# EAGLE library part 74LVC161284 (library digital)
74LVC161284: 19 bit bus interface (Texas Instruments)
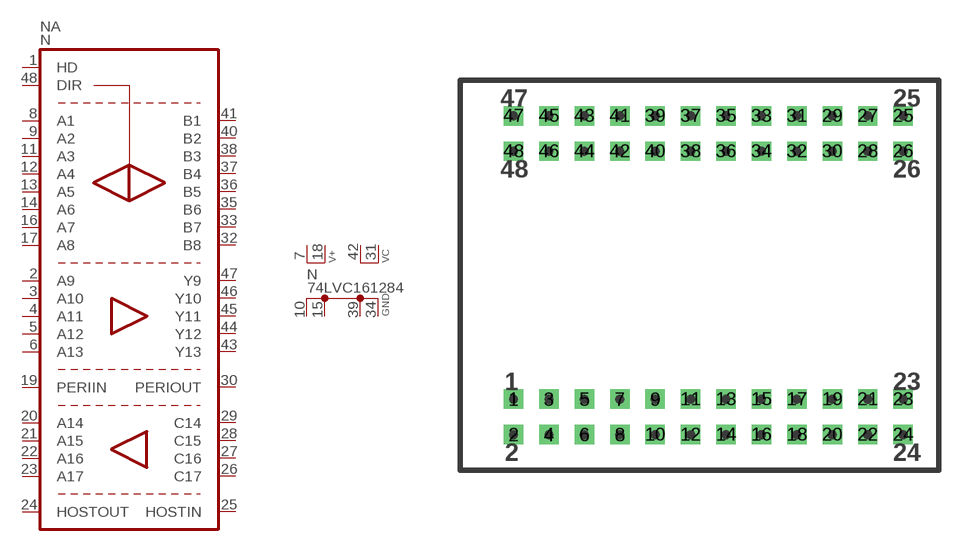
[diagram p62: symbol with the pads of TSSOP48ADAPTER; footprint TSSOP48ADAPTER]

Designator prefix N; gates A=74LVC161284 P=V4+4GND

## 74LVC161284  [TSSOP48ADAPTER]
1  A:HD  in
2  A:A9  in
3  A:A10  in
4  A:A11  in
5  A:A12  in
6  A:A13  in
7  P:V+  pwr
8  A:A1
9  A:A2
10  P:GND  pwr
11  A:A3
12  A:A4
13  A:A5
14  A:A6
15  P:GND  pwr
16  A:A7
17  A:A8
18  P:V+  pwr
19  A:PERIIN  in
20  A:A14  out
21  A:A15  out
22  A:A16  out
23  A:A17  out
24  A:HOSTOUT  out
25  A:HOSTIN  in
26  A:C17  in
27  A:C16  in
28  A:C15  in
29  A:C14  in
30  A:PERIOUT  out
31  P:VC+  pwr
32  A:B8
33  A:B7
34  P:GND  pwr
35  A:B6
36  A:B5
37  A:B4
38  A:B3
39  P:GND  pwr
40  A:B2
41  A:B1
42  P:VC+  pwr
43  A:Y13  out
44  A:Y12  out
45  A:Y11  out
46  A:Y10  out
47  A:Y9  out
48  A:DIR  in

## Footprint TSSOP48ADAPTER (pad centres in mm)
TSSOP48 adapter Roth Elektronik RE933-09
drill 0.813 pad 1.397 square: 1 0,0; 2 0,-2.54; 3 2.54,0; 4 2.54,-2.54; 5 5.08,0; 6 5.08,-2.54; 7 7.62,0; 8 7.62,-2.54; 9 10.16,0; 10 10.16,-2.54; 11 12.7,0; 12 12.7,-2.54; 13 15.24,0; 14 15.24,-2.54; 15 17.78,0; 16 17.78,-2.54; 17 20.32,0; 18 20.32,-2.54; 19 22.86,0; 20 22.86,-2.54; 21 25.4,0; 22 25.4,-2.54; 23 27.94,0; 24 27.94,-2.54; 25 27.94,20.32; 26 27.94,17.78; 27 25.4,20.32; 28 25.4,17.78; 29 22.86,20.32; 30 22.86,17.78; 31 20.32,20.32; 32 20.32,17.78; 33 17.78,20.32; 34 17.78,17.78; 35 15.24,20.32; 36 15.24,17.78; 37 12.7,20.32; 38 12.7,17.78; 39 10.16,20.32; 40 10.16,17.78; 41 7.62,20.32; 42 7.62,17.78; 43 5.08,20.32; 44 5.08,17.78; 45 2.54,20.32; 46 2.54,17.78; 47 0,20.32; 48 0,17.78